# Altium footprint library Inductors Multilayer.PcbLib: 6 footprints
Each footprint in its own frame and in the unit in brackets; x right, y up, seen from the top. Pads: shape width x height; smd on the part's side, far side on the other; paste and mask are expansions set on the pad; w line width, h text height; cw(c..) or ccw(c..) is an arc to the next point about the centre after c.
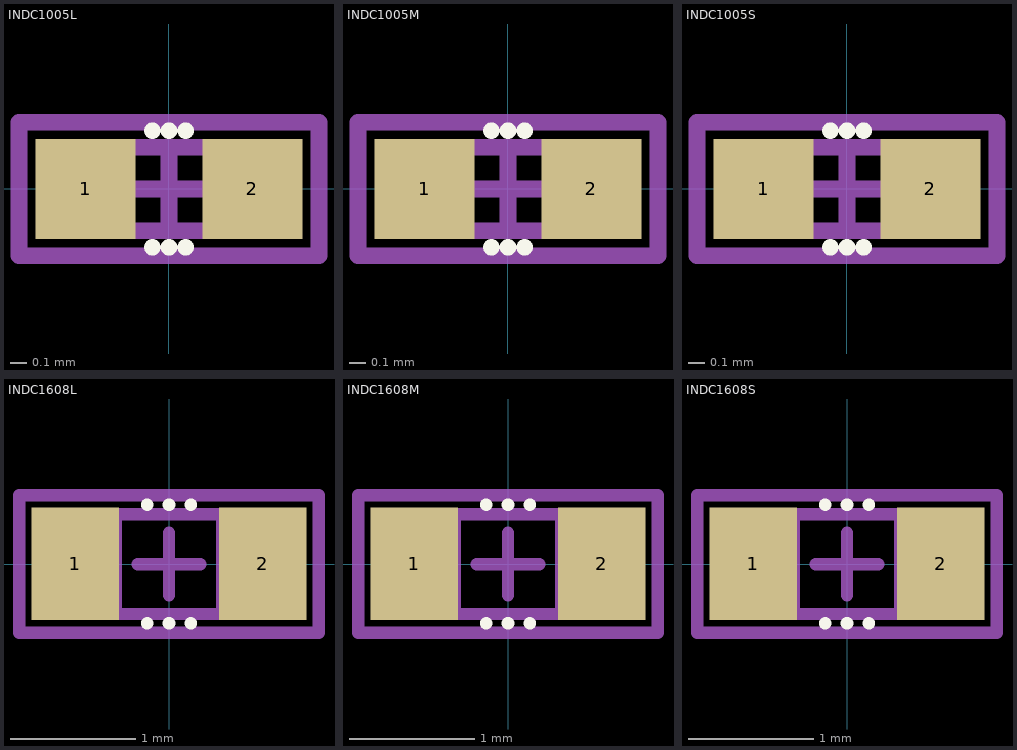
[diagram p0: the footprints below, top view; thin cyan lines are the x and y axes]

## INDC1005L [mm] "Body 1.00mm x 0.50mm"
height 0.45
pads (2):
  rect 0.6x0.6 smd: 1(-0.5,0) 2(0.5,0)
Top Overlay:
  circle w0.1: c0,0.35 r0
  circle w0.1: c-0.1,0.35 r0
  circle w0.1: c0.1,0.35 r0
  circle w0.1: c-0.1,-0.35 r0
  circle w0.1: c0.1,-0.35 r0
  circle w0.1: c0,-0.35 r0
Top Package:
  lines w0.1: -0.3,-0.25 -0.3,0.25 ; 0.3,-0.25 0.3,0.25 ; -0.5,-0.25 0.5,-0.25 0.5,0.25 -0.5,0.25 -0.5,-0.25
Top Border:
  lines w0.1: -0.25,0 0.25,0 ; 0,-0.25 0,0.25 ; -0.9,-0.4 0.9,-0.4 0.9,0.4 -0.9,0.4 -0.9,-0.4
3D body "INDC1005.step": height 0.25, standoff -0.25, extent -0.5,-0.3 0.5,0.3

## INDC1005M [mm] "Body 1.00mm x 0.50mm"
height 0.45
pads (2):
  rect 0.6x0.6 smd: 1(-0.5,0) 2(0.5,0)
Top Overlay:
  circle w0.1: c0,0.35 r0
  circle w0.1: c-0.1,0.35 r0
  circle w0.1: c0.1,0.35 r0
  circle w0.1: c-0.1,-0.35 r0
  circle w0.1: c0.1,-0.35 r0
  circle w0.1: c0,-0.35 r0
Top Package:
  lines w0.1: -0.3,-0.25 -0.3,0.25 ; 0.3,-0.25 0.3,0.25 ; -0.5,-0.25 0.5,-0.25 0.5,0.25 -0.5,0.25 -0.5,-0.25
Top Border:
  lines w0.1: -0.25,0 0.25,0 ; 0,-0.25 0,0.25 ; -0.9,-0.4 0.9,-0.4 0.9,0.4 -0.9,0.4 -0.9,-0.4
3D body "INDC1005.step": height 0.25, standoff -0.25, extent -0.5,-0.3 0.5,0.3

## INDC1005S [mm] "Body 1.00mm x 0.50mm"
height 0.45
pads (2):
  rect 0.6x0.6 smd: 1(-0.5,0) 2(0.5,0)
Top Overlay:
  circle w0.1: c0,0.35 r0
  circle w0.1: c-0.1,0.35 r0
  circle w0.1: c0.1,0.35 r0
  circle w0.1: c-0.1,-0.35 r0
  circle w0.1: c0.1,-0.35 r0
  circle w0.1: c0,-0.35 r0
Top Package:
  lines w0.1: -0.3,-0.25 -0.3,0.25 ; 0.3,-0.25 0.3,0.25 ; -0.5,-0.25 0.5,-0.25 0.5,0.25 -0.5,0.25 -0.5,-0.25
Top Border:
  lines w0.1: -0.25,0 0.25,0 ; 0,-0.25 0,0.25 ; -0.9,-0.4 0.9,-0.4 0.9,0.4 -0.9,0.4 -0.9,-0.4
3D body "INDC1005.step": height 0.25, standoff -0.25, extent -0.5,-0.3 0.5,0.3

## INDC1608L [mm] "Body 1.6x0.8mm"
height 0.95
pads (2):
  rect 0.7x0.9 smd: 1(-0.75,0) 2(0.75,0)
Top Overlay:
  circle w0.1: c0.175,0.475 r0
  circle w0.1: c-0.175,0.475 r0
  circle w0.1: c0,0.475 r0
  circle w0.1: c0,-0.475 r0
  circle w0.1: c0.175,-0.475 r0
  circle w0.1: c-0.175,-0.475 r0
Top Package:
  lines w0.1: -0.425,-0.4 -0.425,0.4 ; 0.425,-0.4 0.425,0.4 ; -0.8,-0.4 0.875,-0.4 0.875,0.4 -0.8,0.4 -0.8,-0.4
Top Border:
  lines w0.1: -0.25,0 0.25,0 ; 0,-0.25 0,0.25 ; -1.2,-0.55 -1.2,0.55 1.2,0.55 1.2,-0.55 -1.2,-0.55
3D body "FIC1608.step": height 0.95, standoff 0, extent -0.8,-0.4 0.8,0.4

## INDC1608M [mm] "Body 1.6x0.8mm"
height 0.95
pads (2):
  rect 0.7x0.9 smd: 1(-0.75,0) 2(0.75,0)
Top Overlay:
  circle w0.1: c0.175,0.475 r0
  circle w0.1: c-0.175,0.475 r0
  circle w0.1: c0,0.475 r0
  circle w0.1: c0,-0.475 r0
  circle w0.1: c0.175,-0.475 r0
  circle w0.1: c-0.175,-0.475 r0
Top Package:
  lines w0.1: -0.425,-0.4 -0.425,0.4 ; 0.425,-0.4 0.425,0.4 ; -0.8,-0.4 0.875,-0.4 0.875,0.4 -0.8,0.4 -0.8,-0.4
Top Border:
  lines w0.1: -0.25,0 0.25,0 ; 0,-0.25 0,0.25 ; -1.2,-0.55 1.2,-0.55 1.2,0.55 -1.2,0.55 -1.2,-0.55
3D body "FIC1608.step": height 0.95, standoff 0, extent -0.8,-0.4 0.8,0.4

## INDC1608S [mm] "Body 1.6x0.8mm"
height 0.95
pads (2):
  rect 0.7x0.9 smd: 1(-0.75,0) 2(0.75,0)
Top Overlay:
  circle w0.1: c0.175,0.475 r0
  circle w0.1: c-0.175,0.475 r0
  circle w0.1: c0,0.475 r0
  circle w0.1: c0,-0.475 r0
  circle w0.1: c0.175,-0.475 r0
  circle w0.1: c-0.175,-0.475 r0
Top Package:
  lines w0.1: -0.425,-0.4 -0.425,0.4 ; 0.425,-0.4 0.425,0.4 ; -0.8,-0.4 0.875,-0.4 0.875,0.4 -0.8,0.4 -0.8,-0.4
Top Border:
  lines w0.1: -0.25,0 0.25,0 ; 0,-0.25 0,0.25 ; -1.2,-0.55 1.2,-0.55 1.2,0.55 -1.2,0.55 -1.2,-0.55
3D body "FIC1608.step": height 0.95, standoff 0, extent -0.8,-0.4 0.8,0.4